# EAGLE library part OPAMP-2 (library CougsInSpace-IC-Amplifiers)
Operational Amplifier - Double
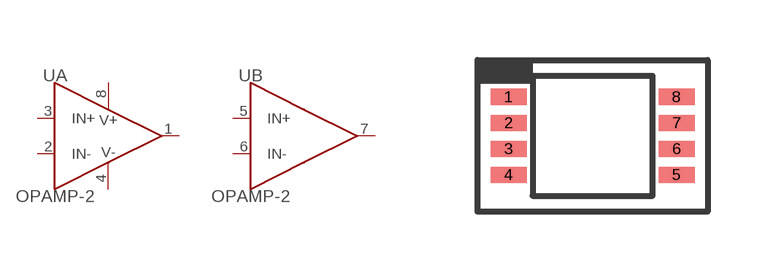
[diagram p2: symbol with the pads of MSOP-8; footprint MSOP-8]

Designator prefix U; gates A=OPAMP-POWER B=OPAMP

## OPAMP-2-AD8542-MSOP8 (SKU: 08-0006; VALUE: AD8542), OPAMP-2-AD8616-MSOP8 (SKU: 08-0005; VALUE: AD8616)  [MSOP-8]
1  A:OUT  out
2  A:IN-  pas
3  A:IN+  pas
4  A:V-  pwr
5  B:IN+  pas
6  B:IN-  pas
7  B:OUT  out
8  A:V+  pwr

## Footprint MSOP-8 (pad centres in mm)
Mini Small Outline Package (MSOP) - 8 Pin
smd 0.9 x 0.4: 1 -2.1,0.975; 2 -2.1,0.325; 3 -2.1,-0.325; 4 -2.1,-0.975; 5 2.1,-0.975; 6 2.1,-0.325; 7 2.1,0.325; 8 2.1,0.975